# EAGLE library part P2_5_1.27 (library pins)
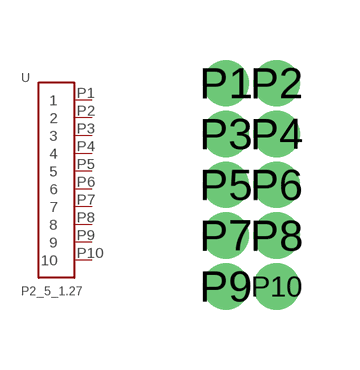
[diagram p6: symbol with the pads of P2_5_1.27; footprint P2_5_1.27]

Designator prefix -

## P2_5_1.27  [P2_5_1.27]
P1  1
P2  2
P3  3
P4  4
P5  5
P6  6
P7  7
P8  8
P9  9
P10  10

## Footprint P2_5_1.27 (pad centres in mm)
drill 0.65 pad 1.016: P1 0,2.54; P2 1.27,2.54; P3 0,1.27; P4 1.27,1.27; P5 0,0; P6 1.27,0; P7 0,-1.27; P8 1.27,-1.27; P9 0,-2.54; P10 1.27,-2.54